# EAGLE library part MCP6002 (library HyTechDevices2)
Microchip MCP6002 Dual Channel Op Amp
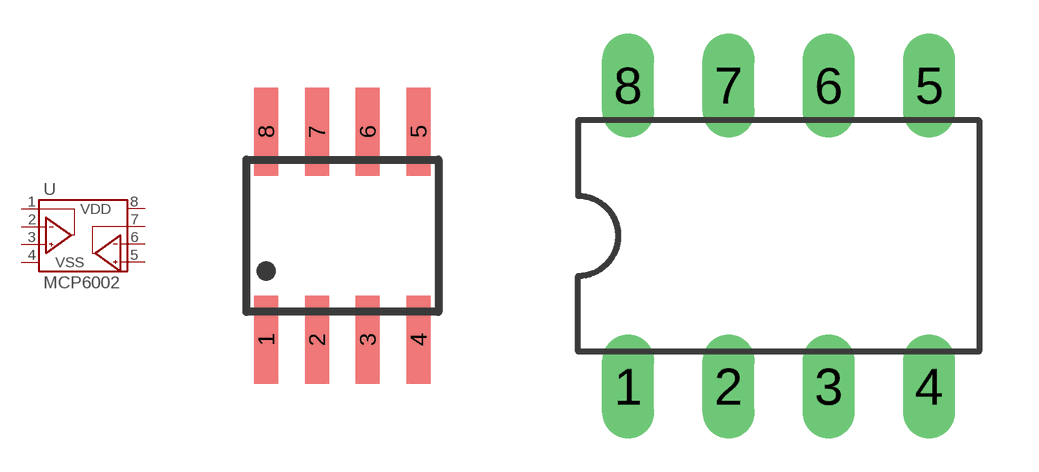
[diagram p52: symbol with the pads of SOIC-08; footprints SOIC-08, DIL08]

Designator prefix -

## MCP6002SOIC  [SOIC-08]
1  VOUTA  pas
2  VINA-  pas
3  VINA+  pas
4  VSS  pas
5  VINB+  pas
6  VINB-  pas
7  VOUTB  pas
8  VDD  pas

## MCP6002PDIP  [DIL08]
Pads as for SOIC-08

## Footprint SOIC-08 (pad centres in mm)
SMALL OUTLINE INTEGRATED CIRCUIT
smd 0.6 x 2.2: 1 -1.905,-2.6; 2 -0.635,-2.6; 3 0.635,-2.6; 4 1.905,-2.6; 5 1.905,2.6; 6 0.635,2.6; 7 -0.635,2.6; 8 -1.905,2.6

## Footprint DIL08 (pad centres in mm)
Dual In Line Package
drill 0.813 long: 1 -3.81,-3.81; 2 -1.27,-3.81; 3 1.27,-3.81; 4 3.81,-3.81; 5 3.81,3.81; 6 1.27,3.81; 7 -1.27,3.81; 8 -3.81,3.81